# Altium footprint library Connector_Samtec_HLE_THT.PcbLib: 141 footprints (part 4 of 9)
Each footprint in its own frame and in the unit in brackets; x right, y up, seen from the top. Pads: shape width x height; smd on the part's side, far side on the other; paste and mask are expansions set on the pad; w line width, h text height; cw(c..) or ccw(c..) is an arc to the next point about the centre after c.
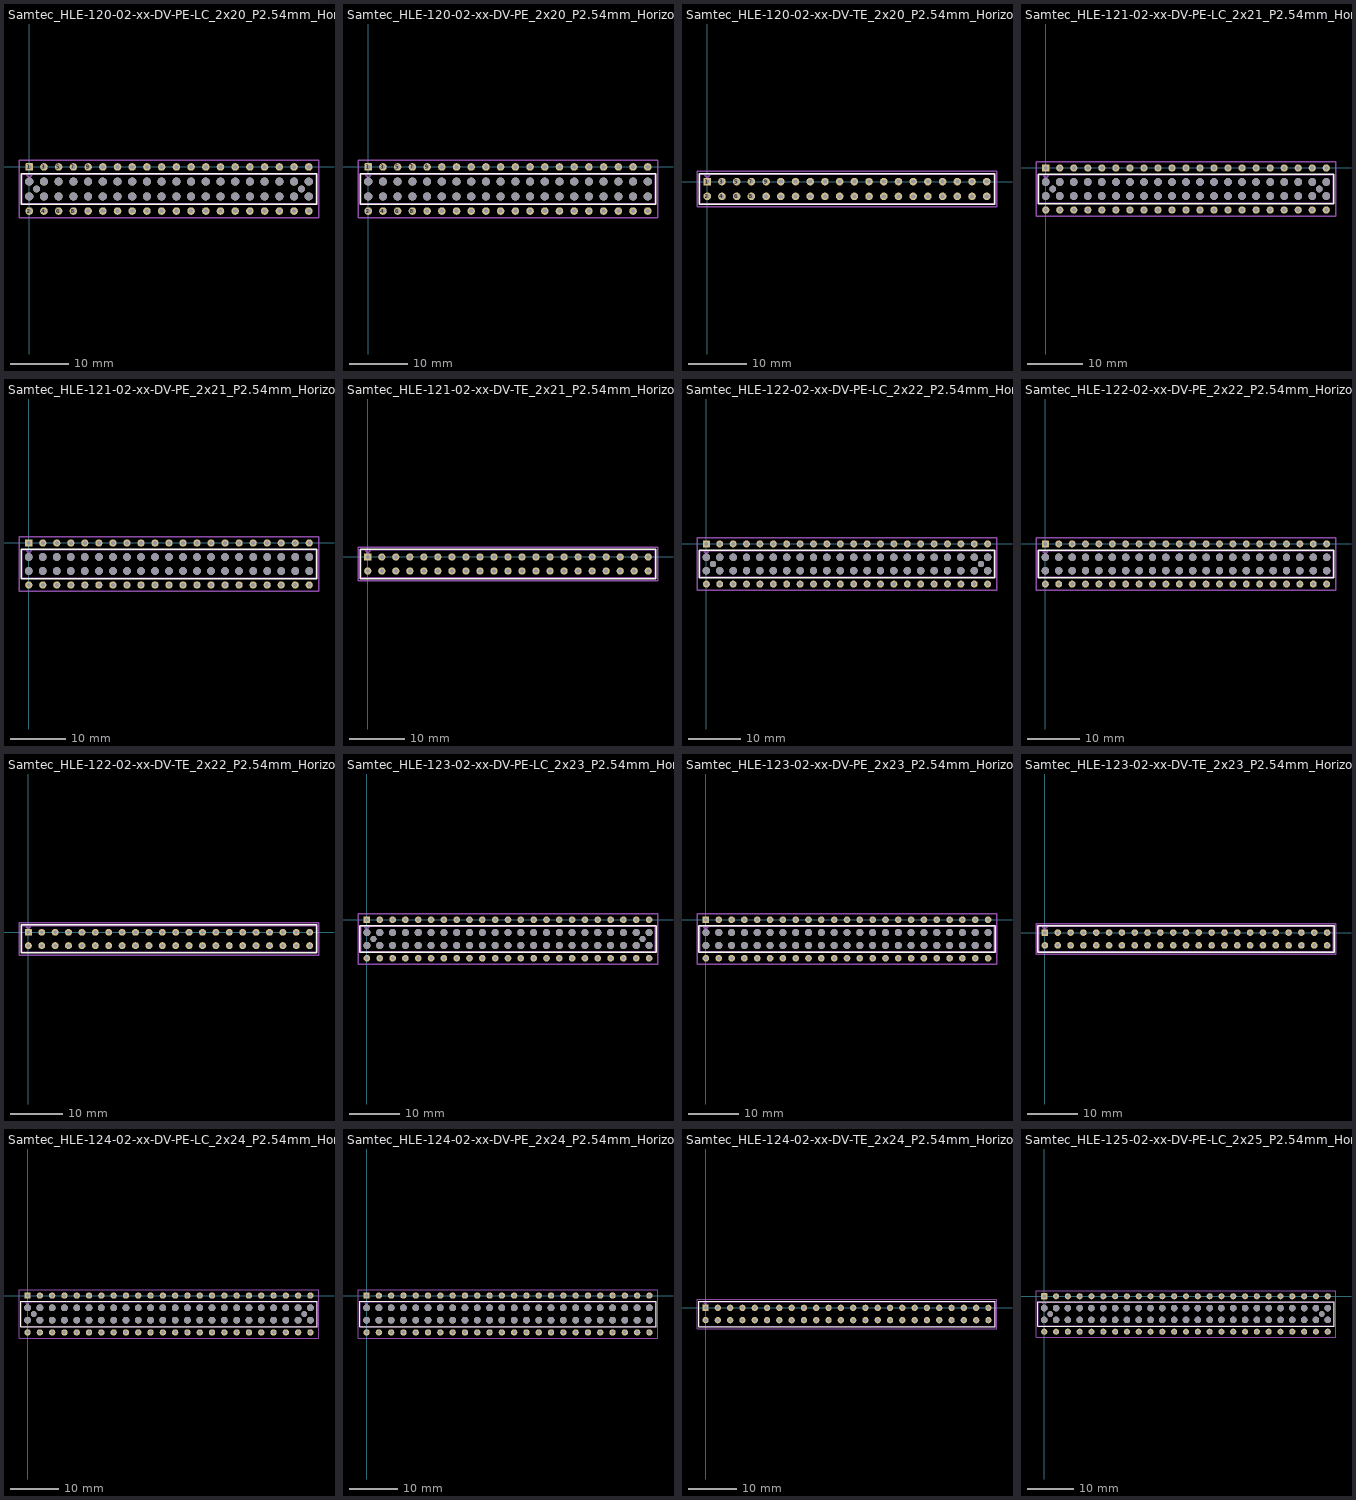
[diagram p3: the footprints below, top view; thin cyan lines are the x and y axes]

## Samtec_HLE-120-02-xx-DV-PE-LC_2x20_P2.54mm_Horizontal [mm]
pads (82):
  rrect19% 1.31x1.31 hole 0.71: 1(0,0)
  round 1.31 hole 0.71: 2(0,-7.62) 3(2.54,0) 4(2.54,-7.62) 5(5.08,0) 6(5.08,-7.62) 7(7.62,0) 8(7.62,-7.62) 9(10.16,0) 10(10.16,-7.62) 11(12.7,0) 12(12.7,-7.62) 13(15.24,0) 14(15.24,-7.62) 15(17.78,0) 16(17.78,-7.62) 17(20.32,0) 18(20.32,-7.62) 19(22.86,0) 20(22.86,-7.62) 21(25.4,0) 22(25.4,-7.62) 23(27.94,0) 24(27.94,-7.62) 25(30.48,0) 26(30.48,-7.62) 27(33.02,0) 28(33.02,-7.62) 29(35.56,0) 30(35.56,-7.62) 31(38.1,0) 32(38.1,-7.62) 33(40.64,0) 34(40.64,-7.62) 35(43.18,0) 36(43.18,-7.62) 37(45.72,0) 38(45.72,-7.62) 39(48.26,0) 40(48.26,-7.62)
  round 1.4 hole 1.4: Un1(0,-2.54) Un2(0,-5.08) Un4(2.54,-2.54) Un5(2.54,-5.08) Un6(5.08,-2.54) Un7(5.08,-5.08) Un8(7.62,-2.54) Un9(7.62,-5.08) Un10(10.16,-2.54) Un11(10.16,-5.08) Un12(12.7,-2.54) Un13(12.7,-5.08) Un14(15.24,-2.54) Un15(15.24,-5.08) Un16(17.78,-2.54) Un17(17.78,-5.08) Un18(20.32,-2.54) Un19(20.32,-5.08) Un20(22.86,-2.54) Un21(22.86,-5.08) Un22(25.4,-2.54) Un23(25.4,-5.08) Un24(27.94,-2.54) Un25(27.94,-5.08) Un26(30.48,-2.54) Un27(30.48,-5.08) Un28(33.02,-2.54) Un29(33.02,-5.08) Un30(35.56,-2.54) Un31(35.56,-5.08) Un32(38.1,-2.54) Un33(38.1,-5.08) Un34(40.64,-2.54) Un35(40.64,-5.08) Un36(43.18,-2.54) Un37(43.18,-5.08) Un38(45.72,-2.54) Un39(45.72,-5.08) Un41(48.26,-2.54) Un42(48.26,-5.08)
  round 1.19 hole 1.19: Un3(1.27,-3.81) Un40(46.99,-3.81)
F.SilkS:
  lines w0.254: -1.38,-6.46 49.64,-6.46 49.64,-1.16 -1.38,-1.16 -1.38,-6.46
Top Assembly:
  lines w0.254: -0.5,-1.27 0,-1.977 0.5,-1.27 ; -1.27,-6.35 49.53,-6.35 49.53,-1.27 -1.27,-1.27 -1.27,-6.35
  text "'.Designator'" at 20.083,-6.49 h1
Top Courtyard:
  lines w0.254: -1.77,-8.78 50.03,-8.78 50.03,1.16 -1.77,1.16 -1.77,-8.78
Top Designator:
  text ".Designator" at 16.512,-4.318 h1.52

## Samtec_HLE-120-02-xx-DV-PE_2x20_P2.54mm_Horizontal [mm]
pads (80):
  rrect19% 1.31x1.31 hole 0.71: 1(0,0)
  round 1.31 hole 0.71: 2(0,-7.62) 3(2.54,0) 4(2.54,-7.62) 5(5.08,0) 6(5.08,-7.62) 7(7.62,0) 8(7.62,-7.62) 9(10.16,0) 10(10.16,-7.62) 11(12.7,0) 12(12.7,-7.62) 13(15.24,0) 14(15.24,-7.62) 15(17.78,0) 16(17.78,-7.62) 17(20.32,0) 18(20.32,-7.62) 19(22.86,0) 20(22.86,-7.62) 21(25.4,0) 22(25.4,-7.62) 23(27.94,0) 24(27.94,-7.62) 25(30.48,0) 26(30.48,-7.62) 27(33.02,0) 28(33.02,-7.62) 29(35.56,0) 30(35.56,-7.62) 31(38.1,0) 32(38.1,-7.62) 33(40.64,0) 34(40.64,-7.62) 35(43.18,0) 36(43.18,-7.62) 37(45.72,0) 38(45.72,-7.62) 39(48.26,0) 40(48.26,-7.62)
  round 1.4 hole 1.4: Un1(0,-2.54) Un2(0,-5.08) Un3(2.54,-2.54) Un4(2.54,-5.08) Un5(5.08,-2.54) Un6(5.08,-5.08) Un7(7.62,-2.54) Un8(7.62,-5.08) Un9(10.16,-2.54) Un10(10.16,-5.08) Un11(12.7,-2.54) Un12(12.7,-5.08) Un13(15.24,-2.54) Un14(15.24,-5.08) Un15(17.78,-2.54) Un16(17.78,-5.08) Un17(20.32,-2.54) Un18(20.32,-5.08) Un19(22.86,-2.54) Un20(22.86,-5.08) Un21(25.4,-2.54) Un22(25.4,-5.08) Un23(27.94,-2.54) Un24(27.94,-5.08) Un25(30.48,-2.54) Un26(30.48,-5.08) Un27(33.02,-2.54) Un28(33.02,-5.08) Un29(35.56,-2.54) Un30(35.56,-5.08) Un31(38.1,-2.54) Un32(38.1,-5.08) Un33(40.64,-2.54) Un34(40.64,-5.08) Un35(43.18,-2.54) Un36(43.18,-5.08) Un37(45.72,-2.54) Un38(45.72,-5.08) Un39(48.26,-2.54) Un40(48.26,-5.08)
F.SilkS:
  lines w0.254: -1.38,-6.46 49.64,-6.46 49.64,-1.16 -1.38,-1.16 -1.38,-6.46
Top Assembly:
  lines w0.254: -0.5,-1.27 0,-1.977 0.5,-1.27 ; -1.27,-6.35 49.53,-6.35 49.53,-1.27 -1.27,-1.27 -1.27,-6.35
  text "'.Designator'" at 20.083,-6.49 h1
Top Courtyard:
  lines w0.254: -1.77,-8.78 50.03,-8.78 50.03,1.16 -1.77,1.16 -1.77,-8.78
Top Designator:
  text ".Designator" at 16.512,-4.318 h1.52

## Samtec_HLE-120-02-xx-DV-TE_2x20_P2.54mm_Horizontal [mm]
pads (40):
  rrect19% 1.31x1.31 hole 0.71: 1(0,0)
  round 1.31 hole 0.71: 2(0,-2.54) 3(2.54,0) 4(2.54,-2.54) 5(5.08,0) 6(5.08,-2.54) 7(7.62,0) 8(7.62,-2.54) 9(10.16,0) 10(10.16,-2.54) 11(12.7,0) 12(12.7,-2.54) 13(15.24,0) 14(15.24,-2.54) 15(17.78,0) 16(17.78,-2.54) 17(20.32,0) 18(20.32,-2.54) 19(22.86,0) 20(22.86,-2.54) 21(25.4,0) 22(25.4,-2.54) 23(27.94,0) 24(27.94,-2.54) 25(30.48,0) 26(30.48,-2.54) 27(33.02,0) 28(33.02,-2.54) 29(35.56,0) 30(35.56,-2.54) 31(38.1,0) 32(38.1,-2.54) 33(40.64,0) 34(40.64,-2.54) 35(43.18,0) 36(43.18,-2.54) 37(45.72,0) 38(45.72,-2.54) 39(48.26,0) 40(48.26,-2.54)
F.SilkS:
  lines w0.254: -1.38,-3.92 49.64,-3.92 49.64,1.38 -1.38,1.38 -1.38,-3.92
Top Assembly:
  lines w0.254: -0.5,1.27 0,0.563 0.5,1.27 ; -1.27,-3.81 49.53,-3.81 49.53,1.27 -1.27,1.27 -1.27,-3.81
  text "'.Designator'" at 20.083,-3.95 h1
Top Courtyard:
  lines w0.254: -1.77,-4.32 50.03,-4.32 50.03,1.77 -1.77,1.77 -1.77,-4.32
Top Designator:
  text ".Designator" at 16.512,-1.783 h1.52

## Samtec_HLE-121-02-xx-DV-PE-LC_2x21_P2.54mm_Horizontal [mm]
pads (86):
  rrect19% 1.31x1.31 hole 0.71: 1(0,0)
  round 1.31 hole 0.71: 2(0,-7.62) 3(2.54,0) 4(2.54,-7.62) 5(5.08,0) 6(5.08,-7.62) 7(7.62,0) 8(7.62,-7.62) 9(10.16,0) 10(10.16,-7.62) 11(12.7,0) 12(12.7,-7.62) 13(15.24,0) 14(15.24,-7.62) 15(17.78,0) 16(17.78,-7.62) 17(20.32,0) 18(20.32,-7.62) 19(22.86,0) 20(22.86,-7.62) 21(25.4,0) 22(25.4,-7.62) 23(27.94,0) 24(27.94,-7.62) 25(30.48,0) 26(30.48,-7.62) 27(33.02,0) 28(33.02,-7.62) 29(35.56,0) 30(35.56,-7.62) 31(38.1,0) 32(38.1,-7.62) 33(40.64,0) 34(40.64,-7.62) 35(43.18,0) 36(43.18,-7.62) 37(45.72,0) 38(45.72,-7.62) 39(48.26,0) 40(48.26,-7.62) 41(50.8,0) 42(50.8,-7.62)
  round 1.4 hole 1.4: Un1(0,-2.54) Un2(0,-5.08) Un4(2.54,-2.54) Un5(2.54,-5.08) Un6(5.08,-2.54) Un7(5.08,-5.08) Un8(7.62,-2.54) Un9(7.62,-5.08) Un10(10.16,-2.54) Un11(10.16,-5.08) Un12(12.7,-2.54) Un13(12.7,-5.08) Un14(15.24,-2.54) Un15(15.24,-5.08) Un16(17.78,-2.54) Un17(17.78,-5.08) Un18(20.32,-2.54) Un19(20.32,-5.08) Un20(22.86,-2.54) Un21(22.86,-5.08) Un22(25.4,-2.54) Un23(25.4,-5.08) Un24(27.94,-2.54) Un25(27.94,-5.08) Un26(30.48,-2.54) Un27(30.48,-5.08) Un28(33.02,-2.54) Un29(33.02,-5.08) Un30(35.56,-2.54) Un31(35.56,-5.08) Un32(38.1,-2.54) Un33(38.1,-5.08) Un34(40.64,-2.54) Un35(40.64,-5.08) Un36(43.18,-2.54) Un37(43.18,-5.08) Un38(45.72,-2.54) Un39(45.72,-5.08) Un40(48.26,-2.54) Un41(48.26,-5.08) Un43(50.8,-2.54) Un44(50.8,-5.08)
  round 1.19 hole 1.19: Un3(1.27,-3.81) Un42(49.53,-3.81)
F.SilkS:
  lines w0.254: -1.38,-6.46 52.18,-6.46 52.18,-1.16 -1.38,-1.16 -1.38,-6.46
Top Assembly:
  lines w0.254: -0.5,-1.27 0,-1.977 0.5,-1.27 ; -1.27,-6.35 52.07,-6.35 52.07,-1.27 -1.27,-1.27 -1.27,-6.35
  text "'.Designator'" at 21.353,-6.49 h1
Top Courtyard:
  lines w0.254: -1.77,-8.78 52.57,-8.78 52.57,1.16 -1.77,1.16 -1.77,-8.78
Top Designator:
  text ".Designator" at 17.782,-4.318 h1.52

## Samtec_HLE-121-02-xx-DV-PE_2x21_P2.54mm_Horizontal [mm]
pads (84):
  rrect19% 1.31x1.31 hole 0.71: 1(0,0)
  round 1.31 hole 0.71: 2(0,-7.62) 3(2.54,0) 4(2.54,-7.62) 5(5.08,0) 6(5.08,-7.62) 7(7.62,0) 8(7.62,-7.62) 9(10.16,0) 10(10.16,-7.62) 11(12.7,0) 12(12.7,-7.62) 13(15.24,0) 14(15.24,-7.62) 15(17.78,0) 16(17.78,-7.62) 17(20.32,0) 18(20.32,-7.62) 19(22.86,0) 20(22.86,-7.62) 21(25.4,0) 22(25.4,-7.62) 23(27.94,0) 24(27.94,-7.62) 25(30.48,0) 26(30.48,-7.62) 27(33.02,0) 28(33.02,-7.62) 29(35.56,0) 30(35.56,-7.62) 31(38.1,0) 32(38.1,-7.62) 33(40.64,0) 34(40.64,-7.62) 35(43.18,0) 36(43.18,-7.62) 37(45.72,0) 38(45.72,-7.62) 39(48.26,0) 40(48.26,-7.62) 41(50.8,0) 42(50.8,-7.62)
  round 1.4 hole 1.4: Un1(0,-2.54) Un2(0,-5.08) Un3(2.54,-2.54) Un4(2.54,-5.08) Un5(5.08,-2.54) Un6(5.08,-5.08) Un7(7.62,-2.54) Un8(7.62,-5.08) Un9(10.16,-2.54) Un10(10.16,-5.08) Un11(12.7,-2.54) Un12(12.7,-5.08) Un13(15.24,-2.54) Un14(15.24,-5.08) Un15(17.78,-2.54) Un16(17.78,-5.08) Un17(20.32,-2.54) Un18(20.32,-5.08) Un19(22.86,-2.54) Un20(22.86,-5.08) Un21(25.4,-2.54) Un22(25.4,-5.08) Un23(27.94,-2.54) Un24(27.94,-5.08) Un25(30.48,-2.54) Un26(30.48,-5.08) Un27(33.02,-2.54) Un28(33.02,-5.08) Un29(35.56,-2.54) Un30(35.56,-5.08) Un31(38.1,-2.54) Un32(38.1,-5.08) Un33(40.64,-2.54) Un34(40.64,-5.08) Un35(43.18,-2.54) Un36(43.18,-5.08) Un37(45.72,-2.54) Un38(45.72,-5.08) Un39(48.26,-2.54) Un40(48.26,-5.08) Un41(50.8,-2.54) Un42(50.8,-5.08)
F.SilkS:
  lines w0.254: -1.38,-6.46 52.18,-6.46 52.18,-1.16 -1.38,-1.16 -1.38,-6.46
Top Assembly:
  lines w0.254: -0.5,-1.27 0,-1.977 0.5,-1.27 ; -1.27,-6.35 52.07,-6.35 52.07,-1.27 -1.27,-1.27 -1.27,-6.35
  text "'.Designator'" at 21.353,-6.49 h1
Top Courtyard:
  lines w0.254: -1.77,-8.78 52.57,-8.78 52.57,1.16 -1.77,1.16 -1.77,-8.78
Top Designator:
  text ".Designator" at 17.782,-4.318 h1.52

## Samtec_HLE-121-02-xx-DV-TE_2x21_P2.54mm_Horizontal [mm]
pads (42):
  rrect19% 1.31x1.31 hole 0.71: 1(0,0)
  round 1.31 hole 0.71: 2(0,-2.54) 3(2.54,0) 4(2.54,-2.54) 5(5.08,0) 6(5.08,-2.54) 7(7.62,0) 8(7.62,-2.54) 9(10.16,0) 10(10.16,-2.54) 11(12.7,0) 12(12.7,-2.54) 13(15.24,0) 14(15.24,-2.54) 15(17.78,0) 16(17.78,-2.54) 17(20.32,0) 18(20.32,-2.54) 19(22.86,0) 20(22.86,-2.54) 21(25.4,0) 22(25.4,-2.54) 23(27.94,0) 24(27.94,-2.54) 25(30.48,0) 26(30.48,-2.54) 27(33.02,0) 28(33.02,-2.54) 29(35.56,0) 30(35.56,-2.54) 31(38.1,0) 32(38.1,-2.54) 33(40.64,0) 34(40.64,-2.54) 35(43.18,0) 36(43.18,-2.54) 37(45.72,0) 38(45.72,-2.54) 39(48.26,0) 40(48.26,-2.54) 41(50.8,0) 42(50.8,-2.54)
F.SilkS:
  lines w0.254: -1.38,-3.92 52.18,-3.92 52.18,1.38 -1.38,1.38 -1.38,-3.92
Top Assembly:
  lines w0.254: -0.5,1.27 0,0.563 0.5,1.27 ; -1.27,-3.81 52.07,-3.81 52.07,1.27 -1.27,1.27 -1.27,-3.81
  text "'.Designator'" at 21.353,-3.95 h1
Top Courtyard:
  lines w0.254: -1.77,-4.32 52.57,-4.32 52.57,1.77 -1.77,1.77 -1.77,-4.32
Top Designator:
  text ".Designator" at 17.782,-1.783 h1.52

## Samtec_HLE-122-02-xx-DV-PE-LC_2x22_P2.54mm_Horizontal [mm]
pads (90):
  rrect19% 1.31x1.31 hole 0.71: 1(0,0)
  round 1.31 hole 0.71: 2(0,-7.62) 3(2.54,0) 4(2.54,-7.62) 5(5.08,0) 6(5.08,-7.62) 7(7.62,0) 8(7.62,-7.62) 9(10.16,0) 10(10.16,-7.62) 11(12.7,0) 12(12.7,-7.62) 13(15.24,0) 14(15.24,-7.62) 15(17.78,0) 16(17.78,-7.62) 17(20.32,0) 18(20.32,-7.62) 19(22.86,0) 20(22.86,-7.62) 21(25.4,0) 22(25.4,-7.62) 23(27.94,0) 24(27.94,-7.62) 25(30.48,0) 26(30.48,-7.62) 27(33.02,0) 28(33.02,-7.62) 29(35.56,0) 30(35.56,-7.62) 31(38.1,0) 32(38.1,-7.62) 33(40.64,0) 34(40.64,-7.62) 35(43.18,0) 36(43.18,-7.62) 37(45.72,0) 38(45.72,-7.62) 39(48.26,0) 40(48.26,-7.62) 41(50.8,0) 42(50.8,-7.62) 43(53.34,0) 44(53.34,-7.62)
  round 1.4 hole 1.4: Un1(0,-2.54) Un2(0,-5.08) Un4(2.54,-2.54) Un5(2.54,-5.08) Un6(5.08,-2.54) Un7(5.08,-5.08) Un8(7.62,-2.54) Un9(7.62,-5.08) Un10(10.16,-2.54) Un11(10.16,-5.08) Un12(12.7,-2.54) Un13(12.7,-5.08) Un14(15.24,-2.54) Un15(15.24,-5.08) Un16(17.78,-2.54) Un17(17.78,-5.08) Un18(20.32,-2.54) Un19(20.32,-5.08) Un20(22.86,-2.54) Un21(22.86,-5.08) Un22(25.4,-2.54) Un23(25.4,-5.08) Un24(27.94,-2.54) Un25(27.94,-5.08) Un26(30.48,-2.54) Un27(30.48,-5.08) Un28(33.02,-2.54) Un29(33.02,-5.08) Un30(35.56,-2.54) Un31(35.56,-5.08) Un32(38.1,-2.54) Un33(38.1,-5.08) Un34(40.64,-2.54) Un35(40.64,-5.08) Un36(43.18,-2.54) Un37(43.18,-5.08) Un38(45.72,-2.54) Un39(45.72,-5.08) Un40(48.26,-2.54) Un41(48.26,-5.08) Un42(50.8,-2.54) Un43(50.8,-5.08) Un45(53.34,-2.54) Un46(53.34,-5.08)
  round 1.19 hole 1.19: Un3(1.27,-3.81) Un44(52.07,-3.81)
F.SilkS:
  lines w0.254: -1.38,-6.46 54.72,-6.46 54.72,-1.16 -1.38,-1.16 -1.38,-6.46
Top Assembly:
  lines w0.254: -0.5,-1.27 0,-1.977 0.5,-1.27 ; -1.27,-6.35 54.61,-6.35 54.61,-1.27 -1.27,-1.27 -1.27,-6.35
  text "'.Designator'" at 22.623,-6.49 h1
Top Courtyard:
  lines w0.254: -1.77,-8.78 55.11,-8.78 55.11,1.16 -1.77,1.16 -1.77,-8.78
Top Designator:
  text ".Designator" at 19.052,-4.318 h1.52

## Samtec_HLE-122-02-xx-DV-PE_2x22_P2.54mm_Horizontal [mm]
pads (88):
  rrect19% 1.31x1.31 hole 0.71: 1(0,0)
  round 1.31 hole 0.71: 2(0,-7.62) 3(2.54,0) 4(2.54,-7.62) 5(5.08,0) 6(5.08,-7.62) 7(7.62,0) 8(7.62,-7.62) 9(10.16,0) 10(10.16,-7.62) 11(12.7,0) 12(12.7,-7.62) 13(15.24,0) 14(15.24,-7.62) 15(17.78,0) 16(17.78,-7.62) 17(20.32,0) 18(20.32,-7.62) 19(22.86,0) 20(22.86,-7.62) 21(25.4,0) 22(25.4,-7.62) 23(27.94,0) 24(27.94,-7.62) 25(30.48,0) 26(30.48,-7.62) 27(33.02,0) 28(33.02,-7.62) 29(35.56,0) 30(35.56,-7.62) 31(38.1,0) 32(38.1,-7.62) 33(40.64,0) 34(40.64,-7.62) 35(43.18,0) 36(43.18,-7.62) 37(45.72,0) 38(45.72,-7.62) 39(48.26,0) 40(48.26,-7.62) 41(50.8,0) 42(50.8,-7.62) 43(53.34,0) 44(53.34,-7.62)
  round 1.4 hole 1.4: Un1(0,-2.54) Un2(0,-5.08) Un3(2.54,-2.54) Un4(2.54,-5.08) Un5(5.08,-2.54) Un6(5.08,-5.08) Un7(7.62,-2.54) Un8(7.62,-5.08) Un9(10.16,-2.54) Un10(10.16,-5.08) Un11(12.7,-2.54) Un12(12.7,-5.08) Un13(15.24,-2.54) Un14(15.24,-5.08) Un15(17.78,-2.54) Un16(17.78,-5.08) Un17(20.32,-2.54) Un18(20.32,-5.08) Un19(22.86,-2.54) Un20(22.86,-5.08) Un21(25.4,-2.54) Un22(25.4,-5.08) Un23(27.94,-2.54) Un24(27.94,-5.08) Un25(30.48,-2.54) Un26(30.48,-5.08) Un27(33.02,-2.54) Un28(33.02,-5.08) Un29(35.56,-2.54) Un30(35.56,-5.08) Un31(38.1,-2.54) Un32(38.1,-5.08) Un33(40.64,-2.54) Un34(40.64,-5.08) Un35(43.18,-2.54) Un36(43.18,-5.08) Un37(45.72,-2.54) Un38(45.72,-5.08) Un39(48.26,-2.54) Un40(48.26,-5.08) Un41(50.8,-2.54) Un42(50.8,-5.08) Un43(53.34,-2.54) Un44(53.34,-5.08)
F.SilkS:
  lines w0.254: -1.38,-6.46 54.72,-6.46 54.72,-1.16 -1.38,-1.16 -1.38,-6.46
Top Assembly:
  lines w0.254: -0.5,-1.27 0,-1.977 0.5,-1.27 ; -1.27,-6.35 54.61,-6.35 54.61,-1.27 -1.27,-1.27 -1.27,-6.35
  text "'.Designator'" at 22.623,-6.49 h1
Top Courtyard:
  lines w0.254: -1.77,-8.78 55.11,-8.78 55.11,1.16 -1.77,1.16 -1.77,-8.78
Top Designator:
  text ".Designator" at 19.052,-4.318 h1.52

## Samtec_HLE-122-02-xx-DV-TE_2x22_P2.54mm_Horizontal [mm]
pads (44):
  rrect19% 1.31x1.31 hole 0.71: 1(0,0)
  round 1.31 hole 0.71: 2(0,-2.54) 3(2.54,0) 4(2.54,-2.54) 5(5.08,0) 6(5.08,-2.54) 7(7.62,0) 8(7.62,-2.54) 9(10.16,0) 10(10.16,-2.54) 11(12.7,0) 12(12.7,-2.54) 13(15.24,0) 14(15.24,-2.54) 15(17.78,0) 16(17.78,-2.54) 17(20.32,0) 18(20.32,-2.54) 19(22.86,0) 20(22.86,-2.54) 21(25.4,0) 22(25.4,-2.54) 23(27.94,0) 24(27.94,-2.54) 25(30.48,0) 26(30.48,-2.54) 27(33.02,0) 28(33.02,-2.54) 29(35.56,0) 30(35.56,-2.54) 31(38.1,0) 32(38.1,-2.54) 33(40.64,0) 34(40.64,-2.54) 35(43.18,0) 36(43.18,-2.54) 37(45.72,0) 38(45.72,-2.54) 39(48.26,0) 40(48.26,-2.54) 41(50.8,0) 42(50.8,-2.54) 43(53.34,0) 44(53.34,-2.54)
F.SilkS:
  lines w0.254: -1.38,-3.92 54.72,-3.92 54.72,1.38 -1.38,1.38 -1.38,-3.92
Top Assembly:
  lines w0.254: -0.5,1.27 0,0.563 0.5,1.27 ; -1.27,-3.81 54.61,-3.81 54.61,1.27 -1.27,1.27 -1.27,-3.81
  text "'.Designator'" at 22.623,-3.95 h1
Top Courtyard:
  lines w0.254: -1.77,-4.32 55.11,-4.32 55.11,1.77 -1.77,1.77 -1.77,-4.32
Top Designator:
  text ".Designator" at 19.052,-1.783 h1.52

## Samtec_HLE-123-02-xx-DV-PE-LC_2x23_P2.54mm_Horizontal [mm]
pads (94):
  rrect19% 1.31x1.31 hole 0.71: 1(0,0)
  round 1.31 hole 0.71: 2(0,-7.62) 3(2.54,0) 4(2.54,-7.62) 5(5.08,0) 6(5.08,-7.62) 7(7.62,0) 8(7.62,-7.62) 9(10.16,0) 10(10.16,-7.62) 11(12.7,0) 12(12.7,-7.62) 13(15.24,0) 14(15.24,-7.62) 15(17.78,0) 16(17.78,-7.62) 17(20.32,0) 18(20.32,-7.62) 19(22.86,0) 20(22.86,-7.62) 21(25.4,0) 22(25.4,-7.62) 23(27.94,0) 24(27.94,-7.62) 25(30.48,0) 26(30.48,-7.62) 27(33.02,0) 28(33.02,-7.62) 29(35.56,0) 30(35.56,-7.62) 31(38.1,0) 32(38.1,-7.62) 33(40.64,0) 34(40.64,-7.62) 35(43.18,0) 36(43.18,-7.62) 37(45.72,0) 38(45.72,-7.62) 39(48.26,0) 40(48.26,-7.62) 41(50.8,0) 42(50.8,-7.62) 43(53.34,0) 44(53.34,-7.62) 45(55.88,0) 46(55.88,-7.62)
  round 1.4 hole 1.4: Un1(0,-2.54) Un2(0,-5.08) Un4(2.54,-2.54) Un5(2.54,-5.08) Un6(5.08,-2.54) Un7(5.08,-5.08) Un8(7.62,-2.54) Un9(7.62,-5.08) Un10(10.16,-2.54) Un11(10.16,-5.08) Un12(12.7,-2.54) Un13(12.7,-5.08) Un14(15.24,-2.54) Un15(15.24,-5.08) Un16(17.78,-2.54) Un17(17.78,-5.08) Un18(20.32,-2.54) Un19(20.32,-5.08) Un20(22.86,-2.54) Un21(22.86,-5.08) Un22(25.4,-2.54) Un23(25.4,-5.08) Un24(27.94,-2.54) Un25(27.94,-5.08) Un26(30.48,-2.54) Un27(30.48,-5.08) Un28(33.02,-2.54) Un29(33.02,-5.08) Un30(35.56,-2.54) Un31(35.56,-5.08) Un32(38.1,-2.54) Un33(38.1,-5.08) Un34(40.64,-2.54) Un35(40.64,-5.08) Un36(43.18,-2.54) Un37(43.18,-5.08) Un38(45.72,-2.54) Un39(45.72,-5.08) Un40(48.26,-2.54) Un41(48.26,-5.08) Un42(50.8,-2.54) Un43(50.8,-5.08) Un44(53.34,-2.54) Un45(53.34,-5.08) Un47(55.88,-2.54) Un48(55.88,-5.08)
  round 1.19 hole 1.19: Un3(1.27,-3.81) Un46(54.61,-3.81)
F.SilkS:
  lines w0.254: -1.38,-6.46 57.26,-6.46 57.26,-1.16 -1.38,-1.16 -1.38,-6.46
Top Assembly:
  lines w0.254: -0.5,-1.27 0,-1.977 0.5,-1.27 ; -1.27,-6.35 57.15,-6.35 57.15,-1.27 -1.27,-1.27 -1.27,-6.35
  text "'.Designator'" at 23.893,-6.49 h1
Top Courtyard:
  lines w0.254: -1.77,-8.78 57.65,-8.78 57.65,1.16 -1.77,1.16 -1.77,-8.78
Top Designator:
  text ".Designator" at 20.322,-4.318 h1.52

## Samtec_HLE-123-02-xx-DV-PE_2x23_P2.54mm_Horizontal [mm]
pads (92):
  rrect19% 1.31x1.31 hole 0.71: 1(0,0)
  round 1.31 hole 0.71: 2(0,-7.62) 3(2.54,0) 4(2.54,-7.62) 5(5.08,0) 6(5.08,-7.62) 7(7.62,0) 8(7.62,-7.62) 9(10.16,0) 10(10.16,-7.62) 11(12.7,0) 12(12.7,-7.62) 13(15.24,0) 14(15.24,-7.62) 15(17.78,0) 16(17.78,-7.62) 17(20.32,0) 18(20.32,-7.62) 19(22.86,0) 20(22.86,-7.62) 21(25.4,0) 22(25.4,-7.62) 23(27.94,0) 24(27.94,-7.62) 25(30.48,0) 26(30.48,-7.62) 27(33.02,0) 28(33.02,-7.62) 29(35.56,0) 30(35.56,-7.62) 31(38.1,0) 32(38.1,-7.62) 33(40.64,0) 34(40.64,-7.62) 35(43.18,0) 36(43.18,-7.62) 37(45.72,0) 38(45.72,-7.62) 39(48.26,0) 40(48.26,-7.62) 41(50.8,0) 42(50.8,-7.62) 43(53.34,0) 44(53.34,-7.62) 45(55.88,0) 46(55.88,-7.62)
  round 1.4 hole 1.4: Un1(0,-2.54) Un2(0,-5.08) Un3(2.54,-2.54) Un4(2.54,-5.08) Un5(5.08,-2.54) Un6(5.08,-5.08) Un7(7.62,-2.54) Un8(7.62,-5.08) Un9(10.16,-2.54) Un10(10.16,-5.08) Un11(12.7,-2.54) Un12(12.7,-5.08) Un13(15.24,-2.54) Un14(15.24,-5.08) Un15(17.78,-2.54) Un16(17.78,-5.08) Un17(20.32,-2.54) Un18(20.32,-5.08) Un19(22.86,-2.54) Un20(22.86,-5.08) Un21(25.4,-2.54) Un22(25.4,-5.08) Un23(27.94,-2.54) Un24(27.94,-5.08) Un25(30.48,-2.54) Un26(30.48,-5.08) Un27(33.02,-2.54) Un28(33.02,-5.08) Un29(35.56,-2.54) Un30(35.56,-5.08) Un31(38.1,-2.54) Un32(38.1,-5.08) Un33(40.64,-2.54) Un34(40.64,-5.08) Un35(43.18,-2.54) Un36(43.18,-5.08) Un37(45.72,-2.54) Un38(45.72,-5.08) Un39(48.26,-2.54) Un40(48.26,-5.08) Un41(50.8,-2.54) Un42(50.8,-5.08) Un43(53.34,-2.54) Un44(53.34,-5.08) Un45(55.88,-2.54) Un46(55.88,-5.08)
F.SilkS:
  lines w0.254: -1.38,-6.46 57.26,-6.46 57.26,-1.16 -1.38,-1.16 -1.38,-6.46
Top Assembly:
  lines w0.254: -0.5,-1.27 0,-1.977 0.5,-1.27 ; -1.27,-6.35 57.15,-6.35 57.15,-1.27 -1.27,-1.27 -1.27,-6.35
  text "'.Designator'" at 23.893,-6.49 h1
Top Courtyard:
  lines w0.254: -1.77,-8.78 57.65,-8.78 57.65,1.16 -1.77,1.16 -1.77,-8.78
Top Designator:
  text ".Designator" at 20.322,-4.318 h1.52

## Samtec_HLE-123-02-xx-DV-TE_2x23_P2.54mm_Horizontal [mm]
pads (46):
  rrect19% 1.31x1.31 hole 0.71: 1(0,0)
  round 1.31 hole 0.71: 2(0,-2.54) 3(2.54,0) 4(2.54,-2.54) 5(5.08,0) 6(5.08,-2.54) 7(7.62,0) 8(7.62,-2.54) 9(10.16,0) 10(10.16,-2.54) 11(12.7,0) 12(12.7,-2.54) 13(15.24,0) 14(15.24,-2.54) 15(17.78,0) 16(17.78,-2.54) 17(20.32,0) 18(20.32,-2.54) 19(22.86,0) 20(22.86,-2.54) 21(25.4,0) 22(25.4,-2.54) 23(27.94,0) 24(27.94,-2.54) 25(30.48,0) 26(30.48,-2.54) 27(33.02,0) 28(33.02,-2.54) 29(35.56,0) 30(35.56,-2.54) 31(38.1,0) 32(38.1,-2.54) 33(40.64,0) 34(40.64,-2.54) 35(43.18,0) 36(43.18,-2.54) 37(45.72,0) 38(45.72,-2.54) 39(48.26,0) 40(48.26,-2.54) 41(50.8,0) 42(50.8,-2.54) 43(53.34,0) 44(53.34,-2.54) 45(55.88,0) 46(55.88,-2.54)
F.SilkS:
  lines w0.254: -1.38,-3.92 57.26,-3.92 57.26,1.38 -1.38,1.38 -1.38,-3.92
Top Assembly:
  lines w0.254: -0.5,1.27 0,0.563 0.5,1.27 ; -1.27,-3.81 57.15,-3.81 57.15,1.27 -1.27,1.27 -1.27,-3.81
  text "'.Designator'" at 23.893,-3.95 h1
Top Courtyard:
  lines w0.254: -1.77,-4.32 57.65,-4.32 57.65,1.77 -1.77,1.77 -1.77,-4.32
Top Designator:
  text ".Designator" at 20.322,-1.783 h1.52

## Samtec_HLE-124-02-xx-DV-PE-LC_2x24_P2.54mm_Horizontal [mm]
pads (98):
  rrect19% 1.31x1.31 hole 0.71: 1(0,0)
  round 1.31 hole 0.71: 2(0,-7.62) 3(2.54,0) 4(2.54,-7.62) 5(5.08,0) 6(5.08,-7.62) 7(7.62,0) 8(7.62,-7.62) 9(10.16,0) 10(10.16,-7.62) 11(12.7,0) 12(12.7,-7.62) 13(15.24,0) 14(15.24,-7.62) 15(17.78,0) 16(17.78,-7.62) 17(20.32,0) 18(20.32,-7.62) 19(22.86,0) 20(22.86,-7.62) 21(25.4,0) 22(25.4,-7.62) 23(27.94,0) 24(27.94,-7.62) 25(30.48,0) 26(30.48,-7.62) 27(33.02,0) 28(33.02,-7.62) 29(35.56,0) 30(35.56,-7.62) 31(38.1,0) 32(38.1,-7.62) 33(40.64,0) 34(40.64,-7.62) 35(43.18,0) 36(43.18,-7.62) 37(45.72,0) 38(45.72,-7.62) 39(48.26,0) 40(48.26,-7.62) 41(50.8,0) 42(50.8,-7.62) 43(53.34,0) 44(53.34,-7.62) 45(55.88,0) 46(55.88,-7.62) 47(58.42,0) 48(58.42,-7.62)
  round 1.4 hole 1.4: Un1(0,-2.54) Un2(0,-5.08) Un4(2.54,-2.54) Un5(2.54,-5.08) Un6(5.08,-2.54) Un7(5.08,-5.08) Un8(7.62,-2.54) Un9(7.62,-5.08) Un10(10.16,-2.54) Un11(10.16,-5.08) Un12(12.7,-2.54) Un13(12.7,-5.08) Un14(15.24,-2.54) Un15(15.24,-5.08) Un16(17.78,-2.54) Un17(17.78,-5.08) Un18(20.32,-2.54) Un19(20.32,-5.08) Un20(22.86,-2.54) Un21(22.86,-5.08) Un22(25.4,-2.54) Un23(25.4,-5.08) Un24(27.94,-2.54) Un25(27.94,-5.08) Un26(30.48,-2.54) Un27(30.48,-5.08) Un28(33.02,-2.54) Un29(33.02,-5.08) Un30(35.56,-2.54) Un31(35.56,-5.08) Un32(38.1,-2.54) Un33(38.1,-5.08) Un34(40.64,-2.54) Un35(40.64,-5.08) Un36(43.18,-2.54) Un37(43.18,-5.08) Un38(45.72,-2.54) Un39(45.72,-5.08) Un40(48.26,-2.54) Un41(48.26,-5.08) Un42(50.8,-2.54) Un43(50.8,-5.08) Un44(53.34,-2.54) Un45(53.34,-5.08) Un46(55.88,-2.54) Un47(55.88,-5.08) Un49(58.42,-2.54) Un50(58.42,-5.08)
  round 1.19 hole 1.19: Un3(1.27,-3.81) Un48(57.15,-3.81)
F.SilkS:
  lines w0.254: -1.38,-6.46 59.8,-6.46 59.8,-1.16 -1.38,-1.16 -1.38,-6.46
Top Assembly:
  lines w0.254: -0.5,-1.27 0,-1.977 0.5,-1.27 ; -1.27,-6.35 59.69,-6.35 59.69,-1.27 -1.27,-1.27 -1.27,-6.35
  text "'.Designator'" at 25.163,-6.49 h1
Top Courtyard:
  lines w0.254: -1.77,-8.78 60.19,-8.78 60.19,1.16 -1.77,1.16 -1.77,-8.78
Top Designator:
  text ".Designator" at 21.592,-4.318 h1.52

## Samtec_HLE-124-02-xx-DV-PE_2x24_P2.54mm_Horizontal [mm]
pads (96):
  rrect19% 1.31x1.31 hole 0.71: 1(0,0)
  round 1.31 hole 0.71: 2(0,-7.62) 3(2.54,0) 4(2.54,-7.62) 5(5.08,0) 6(5.08,-7.62) 7(7.62,0) 8(7.62,-7.62) 9(10.16,0) 10(10.16,-7.62) 11(12.7,0) 12(12.7,-7.62) 13(15.24,0) 14(15.24,-7.62) 15(17.78,0) 16(17.78,-7.62) 17(20.32,0) 18(20.32,-7.62) 19(22.86,0) 20(22.86,-7.62) 21(25.4,0) 22(25.4,-7.62) 23(27.94,0) 24(27.94,-7.62) 25(30.48,0) 26(30.48,-7.62) 27(33.02,0) 28(33.02,-7.62) 29(35.56,0) 30(35.56,-7.62) 31(38.1,0) 32(38.1,-7.62) 33(40.64,0) 34(40.64,-7.62) 35(43.18,0) 36(43.18,-7.62) 37(45.72,0) 38(45.72,-7.62) 39(48.26,0) 40(48.26,-7.62) 41(50.8,0) 42(50.8,-7.62) 43(53.34,0) 44(53.34,-7.62) 45(55.88,0) 46(55.88,-7.62) 47(58.42,0) 48(58.42,-7.62)
  round 1.4 hole 1.4: Un1(0,-2.54) Un2(0,-5.08) Un3(2.54,-2.54) Un4(2.54,-5.08) Un5(5.08,-2.54) Un6(5.08,-5.08) Un7(7.62,-2.54) Un8(7.62,-5.08) Un9(10.16,-2.54) Un10(10.16,-5.08) Un11(12.7,-2.54) Un12(12.7,-5.08) Un13(15.24,-2.54) Un14(15.24,-5.08) Un15(17.78,-2.54) Un16(17.78,-5.08) Un17(20.32,-2.54) Un18(20.32,-5.08) Un19(22.86,-2.54) Un20(22.86,-5.08) Un21(25.4,-2.54) Un22(25.4,-5.08) Un23(27.94,-2.54) Un24(27.94,-5.08) Un25(30.48,-2.54) Un26(30.48,-5.08) Un27(33.02,-2.54) Un28(33.02,-5.08) Un29(35.56,-2.54) Un30(35.56,-5.08) Un31(38.1,-2.54) Un32(38.1,-5.08) Un33(40.64,-2.54) Un34(40.64,-5.08) Un35(43.18,-2.54) Un36(43.18,-5.08) Un37(45.72,-2.54) Un38(45.72,-5.08) Un39(48.26,-2.54) Un40(48.26,-5.08) Un41(50.8,-2.54) Un42(50.8,-5.08) Un43(53.34,-2.54) Un44(53.34,-5.08) Un45(55.88,-2.54) Un46(55.88,-5.08) Un47(58.42,-2.54) Un48(58.42,-5.08)
F.SilkS:
  lines w0.254: -1.38,-6.46 59.8,-6.46 59.8,-1.16 -1.38,-1.16 -1.38,-6.46
Top Assembly:
  lines w0.254: -0.5,-1.27 0,-1.977 0.5,-1.27 ; -1.27,-6.35 59.69,-6.35 59.69,-1.27 -1.27,-1.27 -1.27,-6.35
  text "'.Designator'" at 25.163,-6.49 h1
Top Courtyard:
  lines w0.254: -1.77,-8.78 60.19,-8.78 60.19,1.16 -1.77,1.16 -1.77,-8.78
Top Designator:
  text ".Designator" at 21.592,-4.318 h1.52

## Samtec_HLE-124-02-xx-DV-TE_2x24_P2.54mm_Horizontal [mm]
pads (48):
  rrect19% 1.31x1.31 hole 0.71: 1(0,0)
  round 1.31 hole 0.71: 2(0,-2.54) 3(2.54,0) 4(2.54,-2.54) 5(5.08,0) 6(5.08,-2.54) 7(7.62,0) 8(7.62,-2.54) 9(10.16,0) 10(10.16,-2.54) 11(12.7,0) 12(12.7,-2.54) 13(15.24,0) 14(15.24,-2.54) 15(17.78,0) 16(17.78,-2.54) 17(20.32,0) 18(20.32,-2.54) 19(22.86,0) 20(22.86,-2.54) 21(25.4,0) 22(25.4,-2.54) 23(27.94,0) 24(27.94,-2.54) 25(30.48,0) 26(30.48,-2.54) 27(33.02,0) 28(33.02,-2.54) 29(35.56,0) 30(35.56,-2.54) 31(38.1,0) 32(38.1,-2.54) 33(40.64,0) 34(40.64,-2.54) 35(43.18,0) 36(43.18,-2.54) 37(45.72,0) 38(45.72,-2.54) 39(48.26,0) 40(48.26,-2.54) 41(50.8,0) 42(50.8,-2.54) 43(53.34,0) 44(53.34,-2.54) 45(55.88,0) 46(55.88,-2.54) 47(58.42,0) 48(58.42,-2.54)
F.SilkS:
  lines w0.254: -1.38,-3.92 59.8,-3.92 59.8,1.38 -1.38,1.38 -1.38,-3.92
Top Assembly:
  lines w0.254: -0.5,1.27 0,0.563 0.5,1.27 ; -1.27,-3.81 59.69,-3.81 59.69,1.27 -1.27,1.27 -1.27,-3.81
  text "'.Designator'" at 25.163,-3.95 h1
Top Courtyard:
  lines w0.254: -1.77,-4.32 60.19,-4.32 60.19,1.77 -1.77,1.77 -1.77,-4.32
Top Designator:
  text ".Designator" at 21.592,-1.783 h1.52

## Samtec_HLE-125-02-xx-DV-PE-LC_2x25_P2.54mm_Horizontal [mm]
pads (102):
  rrect19% 1.31x1.31 hole 0.71: 1(0,0)
  round 1.31 hole 0.71: 2(0,-7.62) 3(2.54,0) 4(2.54,-7.62) 5(5.08,0) 6(5.08,-7.62) 7(7.62,0) 8(7.62,-7.62) 9(10.16,0) 10(10.16,-7.62) 11(12.7,0) 12(12.7,-7.62) 13(15.24,0) 14(15.24,-7.62) 15(17.78,0) 16(17.78,-7.62) 17(20.32,0) 18(20.32,-7.62) 19(22.86,0) 20(22.86,-7.62) 21(25.4,0) 22(25.4,-7.62) 23(27.94,0) 24(27.94,-7.62) 25(30.48,0) 26(30.48,-7.62) 27(33.02,0) 28(33.02,-7.62) 29(35.56,0) 30(35.56,-7.62) 31(38.1,0) 32(38.1,-7.62) 33(40.64,0) 34(40.64,-7.62) 35(43.18,0) 36(43.18,-7.62) 37(45.72,0) 38(45.72,-7.62) 39(48.26,0) 40(48.26,-7.62) 41(50.8,0) 42(50.8,-7.62) 43(53.34,0) 44(53.34,-7.62) 45(55.88,0) 46(55.88,-7.62) 47(58.42,0) 48(58.42,-7.62) 49(60.96,0) 50(60.96,-7.62)
  round 1.4 hole 1.4: Un1(0,-2.54) Un2(0,-5.08) Un4(2.54,-2.54) Un5(2.54,-5.08) Un6(5.08,-2.54) Un7(5.08,-5.08) Un8(7.62,-2.54) Un9(7.62,-5.08) Un10(10.16,-2.54) Un11(10.16,-5.08) Un12(12.7,-2.54) Un13(12.7,-5.08) Un14(15.24,-2.54) Un15(15.24,-5.08) Un16(17.78,-2.54) Un17(17.78,-5.08) Un18(20.32,-2.54) Un19(20.32,-5.08) Un20(22.86,-2.54) Un21(22.86,-5.08) Un22(25.4,-2.54) Un23(25.4,-5.08) Un24(27.94,-2.54) Un25(27.94,-5.08) Un26(30.48,-2.54) Un27(30.48,-5.08) Un28(33.02,-2.54) Un29(33.02,-5.08) Un30(35.56,-2.54) Un31(35.56,-5.08) Un32(38.1,-2.54) Un33(38.1,-5.08) Un34(40.64,-2.54) Un35(40.64,-5.08) Un36(43.18,-2.54) Un37(43.18,-5.08) Un38(45.72,-2.54) Un39(45.72,-5.08) Un40(48.26,-2.54) Un41(48.26,-5.08) Un42(50.8,-2.54) Un43(50.8,-5.08) Un44(53.34,-2.54) Un45(53.34,-5.08) Un46(55.88,-2.54) Un47(55.88,-5.08) Un48(58.42,-2.54) Un49(58.42,-5.08) Un51(60.96,-2.54) Un52(60.96,-5.08)
  round 1.19 hole 1.19: Un3(1.27,-3.81) Un50(59.69,-3.81)
F.SilkS:
  lines w0.254: -1.38,-6.46 62.34,-6.46 62.34,-1.16 -1.38,-1.16 -1.38,-6.46
Top Assembly:
  lines w0.254: -0.5,-1.27 0,-1.977 0.5,-1.27 ; -1.27,-6.35 62.23,-6.35 62.23,-1.27 -1.27,-1.27 -1.27,-6.35
  text "'.Designator'" at 26.433,-6.49 h1
Top Courtyard:
  lines w0.254: -1.77,-8.78 62.73,-8.78 62.73,1.16 -1.77,1.16 -1.77,-8.78
Top Designator:
  text ".Designator" at 22.862,-4.318 h1.52